# Altium schematic symbol library 691 382 000 0xx.SchLib: 6 symbols
Pins are listed as number, name and electrical type; pins without a type are passive.

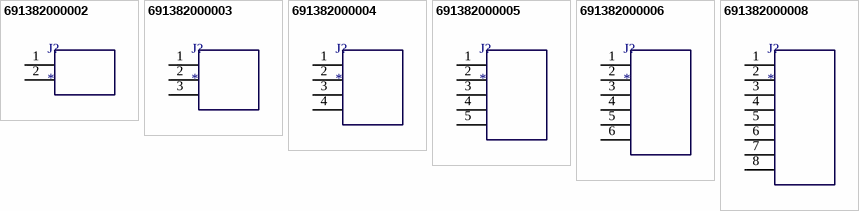
[diagram p0: symbols 691382000002 to 691382000008]

## 691382000002
designator J?
WR-TBL Terminal block - serie 382; Manufacturer: Würth Elektronik eiSos GmbH; partNo: 691382000002; ComponentLink1 Description: Manufacturer; ComponentLink2 Description: Datasheet; ComponentLink1URL: http://www.we-online.de; ComponentLink2URL: http://katalog.we-online.de/em/datasheet/6913820000xx.pdf; Created by: Karrer Zheng; Created Date: 10/9/2014
footprint 691382000002
pins: 1  , 2  

## 691382000003
designator J?
WR-TBL Terminal block - serie 382; Manufacturer: Würth Elektronik eiSos GmbH; partNo: 691382000003; ComponentLink1 Description: Manufacturer; ComponentLink2 Description: Datasheet; ComponentLink1URL: http://www.we-online.de; ComponentLink2URL: http://katalog.we-online.de/em/datasheet/6913820000xx.pdf; Created by: Karrer Zheng; Created Date: 10/9/2014
footprint 691382000003
pins: 1  , 2  , 3  

## 691382000004
designator J?
WR-TBL Terminal block - serie 382; Manufacturer: Würth Elektronik eiSos GmbH; partNo: 691382000004; ComponentLink1 Description: Manufacturer; ComponentLink2 Description: Datasheet; ComponentLink1URL: http://www.we-online.de; ComponentLink2URL: http://katalog.we-online.de/em/datasheet/6913820000xx.pdf; Created by: Karrer Zheng; Created Date: 10/9/2014
footprint 691382000004
pins: 1  , 2  , 3  , 4  

## 691382000005
designator J?
WR-TBL Terminal block - serie 382; Manufacturer: Würth Elektronik eiSos GmbH; partNo: 691382000005; ComponentLink1 Description: Manufacturer; ComponentLink2 Description: Datasheet; ComponentLink1URL: http://www.we-online.de; ComponentLink2URL: http://katalog.we-online.de/em/datasheet/6913820000xx.pdf; Created by: Karrer Zheng; Created Date: 10/9/2014
footprint 691382000005
pins: 1  , 2  , 3  , 4  , 5  

## 691382000006
designator J?
WR-TBL Terminal block - serie 382; Manufacturer: Würth Elektronik eiSos GmbH; partNo: 691382000006; ComponentLink1 Description: Manufacturer; ComponentLink2 Description: Datasheet; ComponentLink1URL: http://www.we-online.de; ComponentLink2URL: http://katalog.we-online.de/em/datasheet/6913820000xx.pdf; Created by: Karrer Zheng; Created Date: 10/9/2014
footprint 691382000006
pins: 1  , 2  , 3  , 4  , 5  , 6  

## 691382000008
designator J?
WR-TBL Terminal block - serie 382; Manufacturer: Würth Elektronik eiSos GmbH; partNo: 691382000008; ComponentLink1 Description: Manufacturer; ComponentLink2 Description: Datasheet; ComponentLink1URL: http://www.we-online.de; ComponentLink2URL: http://katalog.we-online.de/em/datasheet/6913820000xx.pdf; Created by: Karrer Zheng; Created Date: 10/9/2014
footprint 691382000008
pins: 1  , 2  , 3  , 4  , 5  , 6  , 7  , 8  